# EAGLE library part ST-LIS331HH (library FaBo-Mems)
STMicroelectronics LIS331HH(3axis)
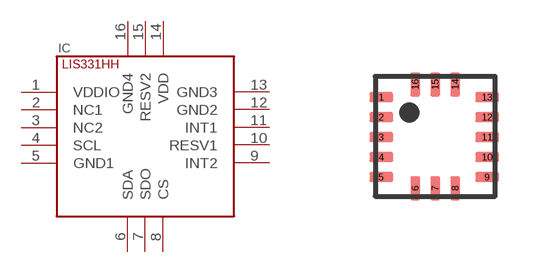
[diagram p6: symbol with the pads of ST-LIS331HH; footprint ST-LIS331HH]

Designator prefix IC

## ST-LIS331HH  [ST-LIS331HH]
1  VDDIO
2  NC1
3  NC2
4  SCL
5  GND1
6  SDA
7  SDO
8  CS
9  INT2
10  RESV1
11  INT1
12  GND2
13  GND3
14  VDD
15  RESV2
16  GND4

## Footprint ST-LIS331HH (pad centres in mm)
smd 0.6 x 0.25: 1 -1.35,0.98; 2 -1.35,0.48; 3 -1.35,-0.02; 4 -1.35,-0.52; 5 -1.35,-1.02; 9 1.3,-1.02; 10 1.3,-0.52; 11 1.3,-0.02; 12 1.3,0.48; 13 1.3,0.98
smd 0.25 x 0.6: 6 -0.5,-1.3; 7 0,-1.3; 8 0.5,-1.3; 14 0.5,1.3; 15 0,1.3; 16 -0.5,1.3